# EAGLE library part FFC6POS (library iBionics)
FFC Connector 6POS
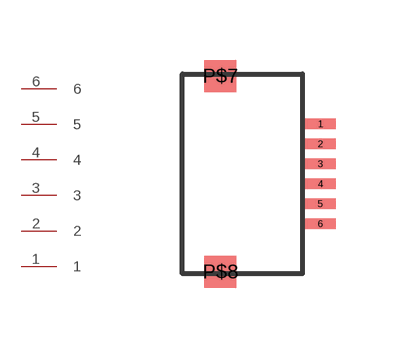
[diagram p35: symbol with the pads of FFC6POS; footprint FFC6POS]

Designator prefix -

## FFC6POS  [FFC6POS]
1  1
2  2
3  3
4  4
5  5
6  6

## Footprint FFC6POS (pad centres in mm)
FFC Connector 6POS
smd 0.762 x 0.254: 1 0.008,1.269; 2 0.008,0.769; 3 0.008,0.269; 4 0.008,-0.231; 5 0.008,-0.731; 6 0.008,-1.231
smd 0.8 x 0.8: P$7 -2.49,2.47; P$8 -2.49,-2.43